# Altium footprint library buttom_PTS526 SK08 SMTR2 LFS.PcbLib: 1 footprints
Each footprint in its own frame and in the unit in brackets; x right, y up, seen from the top. Pads: shape width x height; smd on the part's side, far side on the other; paste and mask are expansions set on the pad; w line width, h text height; cw(c..) or ccw(c..) is an arc to the next point about the centre after c.
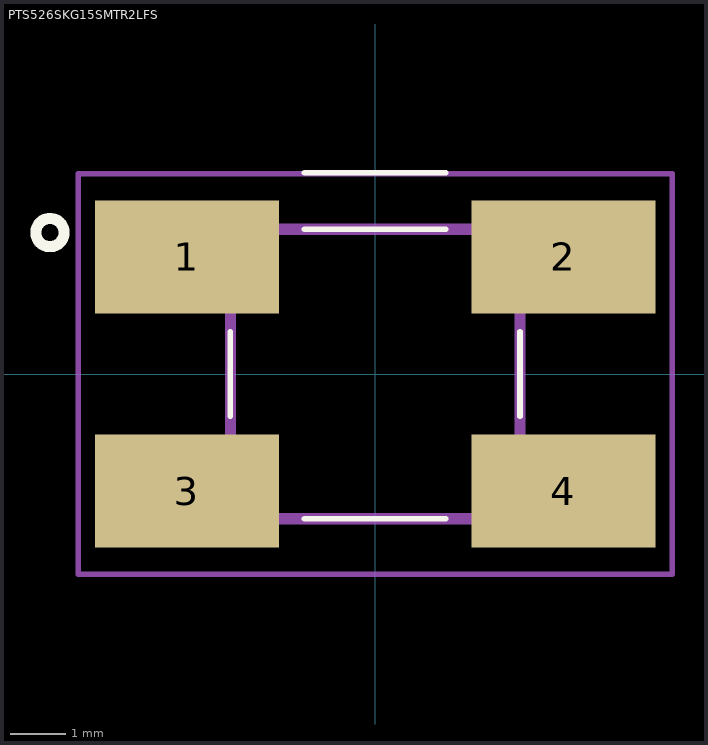
[diagram p0: the footprint, top view; thin cyan lines are the x and y axes]

## PTS526SKG15SMTR2LFS [mil]
pads (4):
  rect 130x80 smd: 1(-133.11,82.83) 2(133.11,82.83) 3(-133.11,-82.83) 4(133.11,-82.83)
Top Overlay:
  lines w3.94: -102.36,-30 -102.36,30 ; -50,-102.36 50,-102.36 ; -50,102.36 50,102.36 ; -50,142.36 50,142.36 ; 102.36,-30 102.36,30
  lines w7.87: -240,100 cw(c-230,100) -220,100 cw(c-230,100) -240,100
Mechanical 13:
  lines w7.87: -102.36,-102.36 -102.36,102.36 102.36,102.36 102.36,-102.36 -102.36,-102.36
Mechanical 15:
  lines w3.94: -210,-141.73 -210,141.73 210,141.73 210,-141.73 -210,-141.73
3D body "FSM6JSMATR--3DModel-STEP-56544.STEP": height 285.83, standoff 0, extent -196.85,-118.11 196.85,118.11